# Altium footprint library MQ-7.PcbLib: 1 footprints
Each footprint in its own frame and in the unit in brackets; x right, y up, seen from the top. Pads: shape width x height; smd on the part's side, far side on the other; paste and mask are expansions set on the pad; w line width, h text height; cw(c..) or ccw(c..) is an arc to the next point about the centre after c.
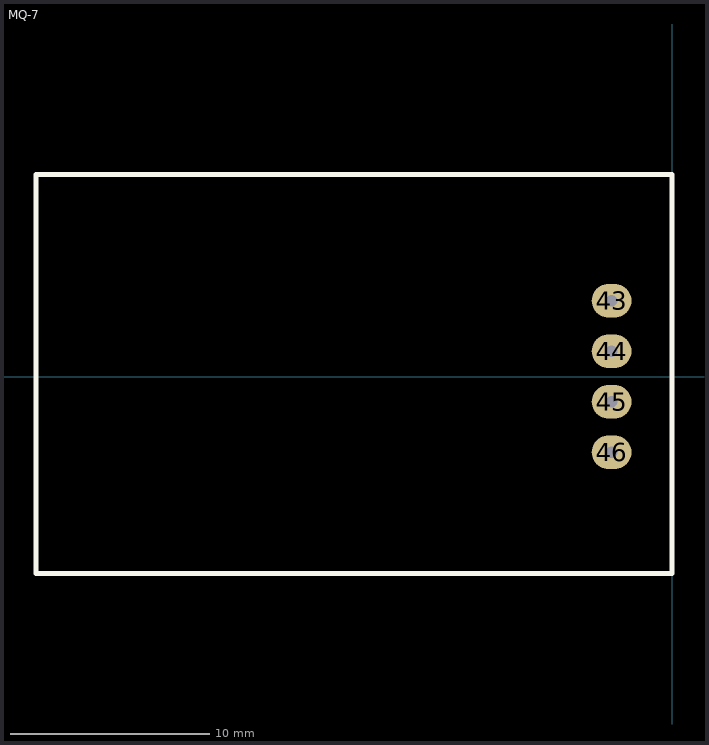
[diagram p0: the footprint, top view; thin cyan lines are the x and y axes]

## MQ-7 [mm]
pads (4):
  oval 2x1.7 hole 0.6: 43(-3.048,3.81) 44(-3.048,1.27) 45(-3.048,-1.27) 46(-3.048,-3.81)
Top Overlay:
  lines w0.254: -32.004,-9.906 0,-9.906 0,10.16 -32.004,10.16 -32.004,-9.906
3D body "?????? ???? MQ7 (CO ??? ??????? ???).STEP": height 11.5, standoff -5, extent -35.53,-10.769 4.97,11.531